# Altium schematic symbol library SX1308_GTW_e381v02c.SchLib: 46 symbols
Pins are listed as number, name and electrical type; pins without a type are passive.

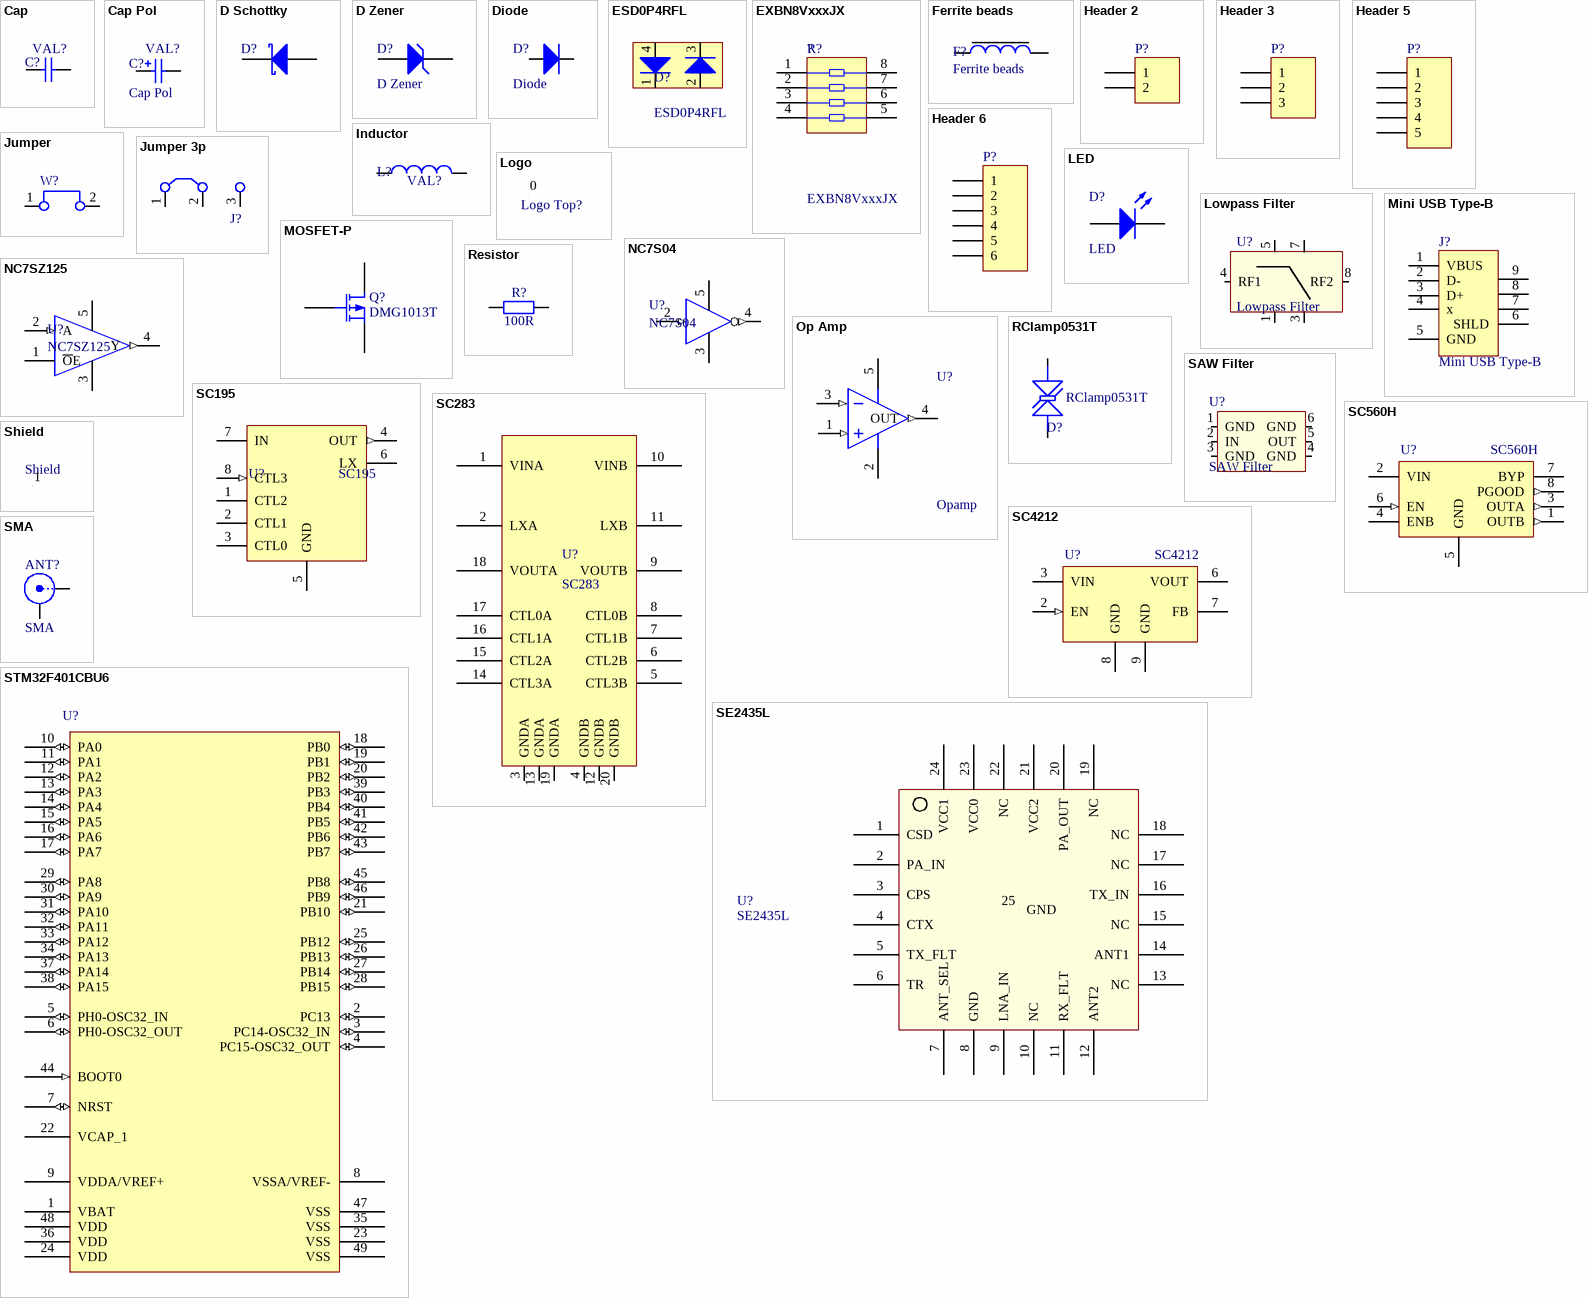
[diagram p0: symbols Cap to STM32F401CBU6]

## Cap
designator C?  value VAL?  (hidden comment: Cap)
Capacitor SMD; Published: 8-Jun-2000; LatestRevisionDate: 05-oct-2007  -  Semtech; LatestRevisionNote: Re-released for DXP Platform.; Publisher: Altium Limited
simulation model CAP (Semiconductor Capacitor)
signal-integrity model Cap Semi
footprint rlc_402_smd (Chip SMD component 402; Body 1.0 x 0.5 mm (LxW typ))
footprint rlc_603_smd (Chip SMD component 603; Body 1.6 x 0.8mm (LxW typ))
footprint rlc_805_smd (Chip SMD component 805; Body 2.0 x 1.25 mm (LxW typ))
footprint rlc_1206_smd (Chip SMD component 1206; Body 3.2 x 1.6 mm (LxW typ))
footprint rlc_201_smd (Chip SMD component 201; Body 0.6 x 0.3 mm (LxW typ))
footprint CD3224 (Chip Diode; Body 3.2 x 2.4mm (LxW typ))
pins: 1, 2

## Cap Pol
designator C?  value VAL?
Polarized Capacitor (Surface Mount); Published: 8-Jun-2000; LatestRevisionDate: 05-oct-2007  -  Semtech; LatestRevisionNote: Re-released for DXP Platform.; Publisher: Altium Limited
simulation model CAP (Capacitor)
signal-integrity model Cap Pol
footprint rlc_1210_smd (Chip SMD component 1210; Body 3.2 x 2.5 mm (LxW typ))
footprint rlc_1812_smd (Chip SMD component 1812; Body 4.5 x 3.2 mm (LxW typ))
footprint rlc_2225_smd (Chip SMD component 2225; Body 5.6 x 6.4 mm (LxW typ))
footprint CD3216-1206 (Chip Diode; Body 3.2 x 1.6 mm (LxW typ))
footprint CD2012-0805 (Chip Diode; Body 2.0 x 1.3 mm (LxW typ))
footprint rlc_1206_smd capa pol (Chip SMD component 1206; Body 3.2 x 1.6 mm (LxW typ))
pins: 1, 2
1 alternate drawing of the same symbol

## D Schottky
designator D?
Schottky Diode; Published: 8-Jun-2000; LatestRevisionDate: 17-Jul-2002; LatestRevisionNote: Re-released for DXP Platform.; PackageReference: SMB; Publisher: Altium Limited; Code_JEDEC: DO-214-AA
footprint SOD523 (SOD523; Chip Diode; Body 1.2 x 0.8 mm (LxW typ))
pins: 1 K, 2 A

## D Zener
designator D?
Zener Diode; Published: 8-Jun-2000; LatestRevisionDate: 05-oct-2007  -  Semtech; LatestRevisionNote: Re-released for DXP Platform.; Publisher: Altium Limited
footprint CD1608-0603 (Chip Diode; Body 1.6 x 0.8 mm (LxW typ))
footprint CD2012-0805 (Chip Diode; Body 2.0 x 1.3 mm (LxW typ))
pins: 1 A, 2 K

## Diode
designator D?
Protection Diode; Published: 8-Jun-2000; LatestRevisionDate: 17-Jul-2002; LatestRevisionNote: Re-released for DXP Platform.; PackageDocument: Sep-1996; PackageReference: SMC; Publisher: Altium Limited; Code_JEDEC: 05-oct-2007  -  Semtech
footprint CD1005-0402 (Chip Diode; Body 1.0 x 0.5 mm (LxW typ))
footprint CD1608-0603 (Chip Diode; Body 1.6 x 0.8 mm (LxW typ))
footprint CD2012-0805 (Chip Diode; Body 2.0 x 1.3 mm (LxW typ))
footprint CD3216-1206 (Chip Diode; Body 3.2 x 1.6 mm (LxW typ))
footprint PowerDI 123 (Chip Diode; PowerDI 123)
footprint DO214-AA (Chip Diode; Body 4.3 x3.6mm (LxW typ))
footprint SOD123 (SOD123; Chip Diode; Body  2.7 x 1.6 mm (LxW typ))
pins: 1 A, 2 K

## ESD0P4RFL
designator D?
ESD0P4RFL - RF ESD Protectction diodes
footprint TSLP-4-7 (TSLP-4-7 1.2x0.8.mm)
pins: 1 K, 2 A, 3 K, 4 A

## EXBN8VxxxJX
designator R?
Mini-Flat Package, Isolated Resistor Network, 0.031 W/resistor; Value: ?
footprint EXB28V (Chip Resistor Array, (0402x4); SM; 8 Leads; Body 2.10 x 1.10 mm (LxW max))
pins: 1, 2, 3, 4, 5, 6, 7, 8

## Ferrite beads
designator F?
Value: VAL?
footprint rlc_1206_smd (Chip SMD component 1206; Body 3.2 x 1.6 mm (LxW typ))
footprint rlc_805_smd (Chip SMD component 805; Body 2.0 x 1.25 mm (LxW typ))
footprint rlc_603_smd (Chip SMD component 603; Body 1.6 x 0.8mm (LxW typ))
footprint rlc_402_smd (Chip SMD component 402; Body 1.0 x 0.5 mm (LxW typ))
pins: 1, 2

## Header 2
designator P?
Header, 2-Pin; LatestRevisionDate: 17-Jul-2002; LatestRevisionNote: Re-released for DXP Platform.; Publisher: Altium Limited
footprint HDR1X2 (Connector; Header; 2 Position)
signal-integrity model Connector
footprint HDR1X2_SMD (Connector; Header; 2 Position; SMD)
pins: 1, 2

## Header 3
designator P?
Header, 3-Pin; LatestRevisionDate: 17-Jul-2002; LatestRevisionNote: Re-released for DXP Platform.; Publisher: Altium Limited
footprint HDR1X3 (Connector; Header; 3 Position)
signal-integrity model Connector
footprint HDR1X3_SMD (Connector; Header; 3 Position; SMD)
pins: 1, 2, 3

## Header 5
designator P?
Header, 5-Pin; LatestRevisionDate: 17-Jul-2002; LatestRevisionNote: Re-released for DXP Platform.; Publisher: Altium Limited
footprint HDR1X5 (Connector; Header; 5 Position)
signal-integrity model Connector
footprint HDR1X5_SMD (Connector; Header; 5 Position; SMD)
pins: 1, 2, 3, 4, 5

## Header 6
designator P?
Header, 6-Pin; LatestRevisionDate: 17-Jul-2002; LatestRevisionNote: Re-released for DXP Platform.; Publisher: Altium Limited
footprint HDR1X6 (Connector; Header; 6 Position)
signal-integrity model Connector
footprint HDR1X6_SMD (Connector; Header; 6 Position; SMD)
pins: 1, 2, 3, 4, 5, 6

## Inductor
designator L?  value VAL?  (hidden comment: Inductor)
Code_IEC: 1005; Published: 8-Jun-2000; LatestRevisionDate: 05-oct-2007  -  Semtech; LatestRevisionNote: Re-released for DXP Platform.; Publisher: Altium Limited; Code_JEITA: 0402
footprint rlc_402_smd (Chip SMD component 402; Body 1.0 x 0.5 mm (LxW typ))
footprint rlc_1812_smd (Chip SMD component 1812; Body 4.5 x 3.2 mm (LxW typ))
footprint WE-PD2 Wurth 5.2 x 5.8mm (Chip Diode; Body  5.2 x 5.8mm (LxW typ))
footprint XFL4020 Series (Chip SMD component ; Body 4.0 x 4.0 mm (LxW typ))
footprint L2813
footprint L4818
pins: 1, 2

## Jumper
designator W?  (value not drawn)
Jumper Wire; LatestRevisionDate: 05-oct-2007  -  Semtech
footprint bridge_254mm (Generic Bridge 2.54mm, 2 Leads 1mm;)
footprint bridge_508mm (Generic Bridge 5.08mm, 2 Leads 1mm;)
pins: 1, 2

## Jumper 3p
designator J?  (value not drawn)
Value: 1K; Published: 8-Jun-2000; LatestRevisionDate: 17-Jul-2002; LatestRevisionNote: Re-released for DXP Platform.; PackageReference: AXIAL-0.3; Publisher: Altium Limited
footprint bridge_254mm_3_position (Generic Bridge 2.54mm, 3 Leads; Hole Size 0.9mm;)
footprint bridge_254mm_3_position_1.1mm (Generic Bridge 2.54mm, 3 Leads; Hole Size 1.1mm;)
footprint bridge_254mm_3_position_no_overlay (Generic Bridge 2.54mm, 3 Leads; Hole Size 0.9mm;)
pins: 1, 2, 3

## LED
designator D?
LatestRevisionDate: 05-oct-2007  -  Semtech
footprint CD1005-0402 (Chip Diode; Body 1.0 x 0.5 mm (LxW typ))
footprint CD1608-0603 (Chip Diode; Body 1.6 x 0.8 mm (LxW typ))
footprint CD2012-0805 (Chip Diode; Body 2.0 x 1.3 mm (LxW typ))
footprint Reverse LED 3216 - 1206-hole round (Reverse Package Chip LED; Body 3.2 x 1.6 mm (LxW typ))
footprint Reverse LED 3216 - 1206 - hole slot (Reverse Package Chip LED; Body 3.2 x 1.6 mm (LxW typ))
footprint LGM676 LED (Chip Diode; Body 2.1 x 1.4 mm (LxW typ))
pins: 1 A, 2 K

## Logo
designator Logo Top?, comment Logo symbol  (value not drawn)
Schematic symbol for Logo
footprint logo_semtech_horiz_size1 (Logo semtech horizontal - size1 - S)
footprint logo_semtech_horiz_size2 (Logo semtech horizontal - size2 - M)
footprint logo_semtech_horiz_size3 (Logo semtech horizontal - size3 - L)
footprint logo_semtech_horiz_size4 (Logo semtech horizontal - size4 - XL)
footprint Logo DC Supply (Logo for DC Supply)
pins: 0 "Logo"

## Lowpass Filter
designator U?
RF Filter - Lowpass; LatestRevisionDate: 05-oct-2007  -  Semtech
footprint LP Filter Johanson (Low Pass Filter ; Body 2.00 x 1.25 mm (LxW max))
pins: 1 GND, 3 GND, 4 RF1, 5 GND, 7 GND, 8 RF2

## Mini USB Type-B
designator J?
USB 2.0, Right Angle, SMT, Type B, Receptacle, 5 Position; ContactMaterial: Phosphor Bronze; ContactPlating: Gold (30) over Nickel; DrillSize: Corresponds to nominal value.; DatasheetDocument: 15-Nov-2002; PackageDocument: 15-Nov-2002; HousingMaterial: Thermoplastic; ComponentLink1Description: Manufacturer Link; ComponentLink1URL: http://www.tycoelectronics.com/; ComponentLink2Description: Packaging Specification; ComponentLink2URL: http://ecommas.tycoelectronics.com/commerce/DocumentDelivery/DDEController?Action=showdoc&DocId=Customer+Drawing%7F440478%7FB%7Fpdf%7FEnglish%7FC_440478_B.pdf
footprint H2959CT-ND (Connector; USB2.0, Type A, SM; 5 Position; Right Angle)
footprint H2959CT_cut_edge (Connector; USB2.0, Type A, SM; 5 Position; Right Angle; Cut Edge for pakgae)
pins: 1 VBUS (power), 2 D-, 3 D+, 4 x, 5 GND (power), 6 SHLD, 7 SHLD, 8 SHLD, 9 SHLD
2 alternate drawings of the same symbol

## MOSFET-P
designator Q?, comment DMG1013T
P-Channel MOSFET; Published: 8-Jun-2000; LatestRevisionDate: 17-Jul-2002; LatestRevisionNote: Re-released for DXP Platform.; PackageVersion: 1995/1996; PackageReference: E3; Publisher: Altium Limited; PackageDescription: TO, Flat Index; 3 In-Line, Axial Leads; Body Dia. 4.6mm; Lead Dia. 0.5 mm (max)
footprint E3 (TO, Flat Index; 3 In-Line, Axial Leads; Body Dia. 4.6mm; Lead Dia. 0.5 mm (max))
simulation model PMOS (MOSFET-P)
pins: 1 D, 2 G, 3 S

## NC7S04
designator U?
NC7S04 - TinyLogic HS Single Inverter - Fairchild Semi
footprint SOT23-5 (SOT23, 5-Leads, Body 2.9x1.6mm, Pitch 0.95mm, Lead Span 2.8mm, IPC Medium Density)
pins: 2 A (in), 3 GND (power), 4 Y (out), 5 VCC (power)

## NC7SZ125
designator U?
NC7SZ125 - TinyLogic HS Single Buffer - Fairchild Semi
footprint SOT23-5 (SOT23, 5-Leads, Body 2.9x1.6mm, Pitch 0.95mm, Lead Span 2.8mm, IPC Medium Density)
footprint SC70-5 (SC70 5-Leads, Body 2.0x1.25mm, Pitch 0.65mm)
pins: 1 ~{O}E (power), 2 A (in), 3 GND (power), 4 Y (out), 5 VCC

## Op Amp
designator U?, comment Opamp
Operational Amplifier - MAX4464
footprint SOT23-5 (SOT23, 5-Leads, Body 2.9x1.6mm, Pitch 0.95mm, Lead Span 2.8mm, IPC Medium Density)
pins: 1 IN+ (in), 2 VSS (power), 3 IN- (in), 4 OUT (out), 5 VDD (power)

## RClamp0531T
designator D?
Ultra Low Capacitance 1-line ESD Protection; LatestRevisionDate: 23-Aug-2016; Type: RClamp0531T
footprint SLP1006P2T (Chip TVS Diode; Body 1.0 x 0.6 mm (LxW typ))
pins: 1 A, 2 K

## Resistor
designator R?  value 100R  (hidden comment: Resistor)
Resistor SMD - IEC symbol version; LatestRevisionDate: 27-Jul-20  -  Semtech
footprint rlc_201_smd (Chip SMD component 201; Body 0.6 x 0.3 mm (LxW typ))
footprint rlc_402_smd (Chip SMD component 402; Body 1.0 x 0.5 mm (LxW typ))
footprint rlc_603_smd (Chip SMD component 603; Body 1.6 x 0.8mm (LxW typ))
footprint rlc_805_smd (Chip SMD component 805; Body 2.0 x 1.25 mm (LxW typ))
footprint rlc_1206_smd (Chip SMD component 1206; Body 3.2 x 1.6 mm (LxW typ))
pins: 1, 2

## SAW Filter
designator U?
SAW Filter - Bandpass - TEMEX type; LatestRevisionDate: 05-oct-2007  -  Semtech
footprint sc44_3.8x3.8mm (sc44 footprint, 3.8x3.8mm)
footprint DCC6C_3.0x3.0mm (DCC6C footprint, 3.0x3.0mm)
pins: 1 GND, 2 IN, 3 GND, 4 GND, 5 OUT, 6 GND

## SC195
designator U?
SC195 - 3.5MHz, 500mA Synchronous  Step Down DC-DC Regulator; Value: ?
footprint MLPQ-UT8
pins: 1 CTL2, 2 CTL1, 3 CTL0, 4 OUT (out), 5 GND (power), 6 LX, 7 IN, 8 CTL3 (in)

## SC283
designator U?
SC283 - Dual Channel 2.5MHz, 1.8A  Synchronous Step-Down Regulator
footprint MLPQ-W18 (MLPQ-W18 ; 2mm x 3mm)
pins: 1 VINA, 2 LXA, 3 GNDA, 4 GNDB, 5 CTL3B, 6 CTL2B, 7 CTL1B, 8 CTL0B, 9 VOUTB, 10 VINB, 11 LXB, 12 GNDB, 13 GNDA, 14 CTL3A, 15 CTL2A, 16 CTL1A, 17 CTL0A, 18 VOUTA, 19 GNDA, 20 GNDB

## SC560H
designator U?
SC560H - Dual Output Low Noise LDO  Linear Regulator
footprint MLPQ-UT8
pins: 1 OUTB (out), 2 VIN, 3 OUTA (out), 4 ENB, 5 GND (power), 6 EN (in), 7 BYP, 8 PGOOD (out)

## SC4212
designator U?
SC4212 - Very Low Input /Very Low Dropout  1Amp Regulator With Enable; Value: ?
footprint MLPD-8 3x3mm (MLPD-8; 3.0x3.0mm; 0.65mm pitch)
pins: 2 EN (in), 3 VIN, 6 VOUT, 7 FB, 8 GND (power), 9 GND (power)

## SE2435L
designator U?
SE2435L - Skyworks High Power RF Front End Module
footprint vqfn24_4x4mm RF (24 Leads, Body 4.0x4.0mm, Pitch 0.50mm, VQFN24; for RF design)
pins: 1 CSD, 2 PA_IN, 3 CPS, 4 CTX, 5 TX_FLT, 6 TR, 7 ANT_SEL, 8 GND, 9 LNA_IN, 10 NC, 11 RX_FLT, 12 ANT2, 13 NC, 14 ANT1, 15 NC, 16 TX_IN, 17 NC, 18 NC, 19 NC, 20 PA_OUT, 21 VCC2, 22 NC, 23 VCC0, 24 VCC1, 25 GND

## Shield
designator Shield, comment Logo symbol  (value not drawn)
Shield - EMI Gasket - Standard Surface Mount Shields
footprint SHIELD-1P125X0P75
footprint SHIELD-1P125X0P75 - 800
footprint SHIELD-1P125X0P75 - 900
footprint BMIS-210-F - Shield (BMIS-210-F EMI Gasket - Standard Surface Mount Shields -  Laird Technologies)
pins: 1 "Shield"

## SMA
designator ANT?
SMA Straight Connector; LatestRevisionDate: 05-oct-2007  -  Semtech; LatestRevisionNote: Re-released for DXP Platform.; Publisher: Altium Limited
footprint SMA_EDGE (SMA Edge connector - modified)
footprint SMA_end_launch_1.6mm_6.35mm (SMA end launch for 1.6mm PCB thickness; 6.35mm)
footprint SMA_end_launch_1.6mm_9.52mm (SMA end launch for 1.6mm PCB thickness; 9.52mm)
pins: 1 Signal "RF signal", 2 GND "Ground signal"

## STM32F401CBU6
designator U?
STM32 ARM Cortex M4 32-bit MCU with 256Kbytes Flash/64kB RAM, UFQFPN48 package; ComponentLink1Description: Manufacturer Link; ComponentLink1URL: www.st.com/stm32
footprint UFQFPN48_7x7MM (UFQFPN48 Leads, Body 7.0x7.0mm, Pitch 0.50mm)
pins: 1 VBAT (power), 2 PC13 (io), 3 PC14-OSC32_IN (io), 4 PC15-OSC32_OUT (io), 5 PH0-OSC32_IN (io), 6 PH0-OSC32_OUT (io), 7 NRST (io), 8 VSSA/VREF- (power), 9 VDDA/VREF+ (power), 10 PA0 (io), 11 PA1 (io), 12 PA2 (io), 13 PA3 (io), 14 PA4 (io), 15 PA5 (io), 16 PA6 (io), 17 PA7 (io), 18 PB0 (io), 19 PB1 (io), 20 PB2 (io), 21 PB10 (io), 22 VCAP_1 (power), 23 VSS (power), 24 VDD (power), 25 PB12 (io), 26 PB13 (io), 27 PB14 (io), 28 PB15 (io), 29 PA8 (io), 30 PA9 (io), 31 PA10 (io), 32 PA11 (io), 33 PA12 (io), 34 PA13 (io), 35 VSS (power), 36 VDD (power), 37 PA14 (io), 38 PA15 (io), 39 PB3 (io), 40 PB4 (io), 41 PB5 (io), 42 PB6 (io), 43 PB7 (io), 44 BOOT0 (in), 45 PB8 (io), 46 PB9 (io), 47 VSS (power), 48 VDD (power), 49 VSS (power) "Exposed Pad GND"

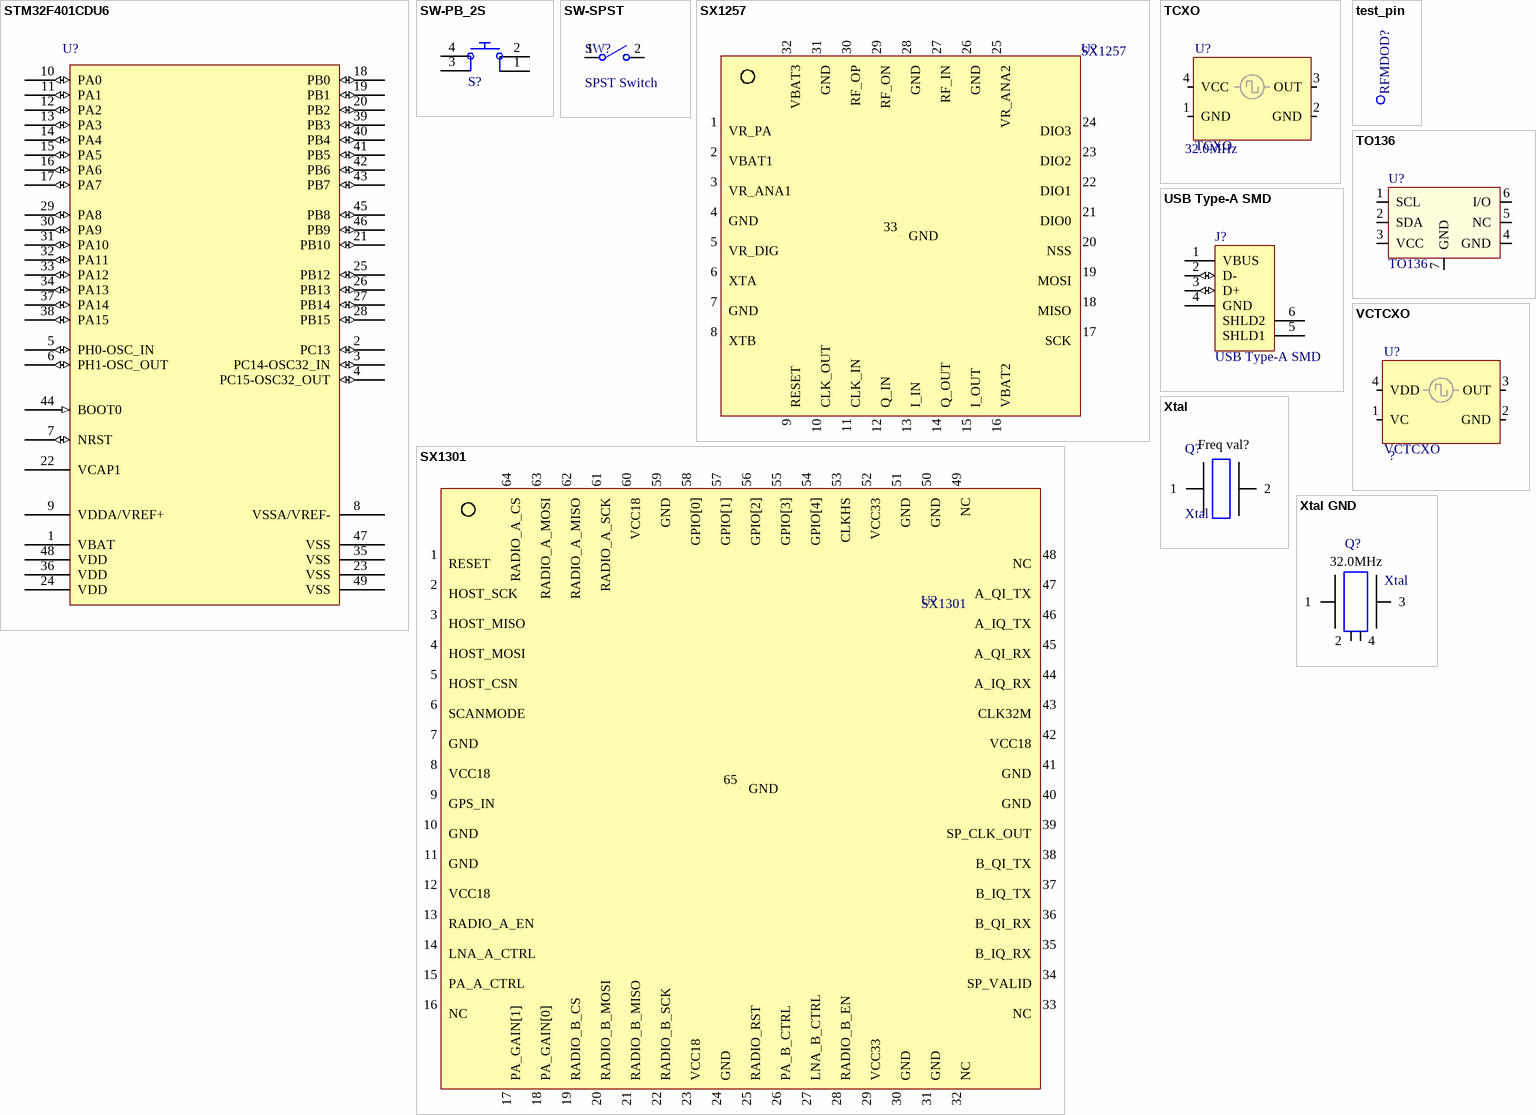
[diagram p1: symbols STM32F401CDU6 to Xtal GND]

## STM32F401CDU6
designator U?
STM32 ARM Cortex M4 32-bit MCU with 256Kbytes Flash/96kB RAM, UFQFPN48 package; ComponentLink1Description: Manufacturer Link; ComponentLink1URL: www.st.com/stm32
footprint UFQFPN48_7x7MM (UFQFPN48 Leads, Body 7.0x7.0mm, Pitch 0.50mm)
pins: 1 VBAT (power), 2 PC13 (io), 3 PC14-OSC32_IN (io), 4 PC15-OSC32_OUT (io), 5 PH0-OSC_IN (io), 6 PH1-OSC_OUT (io), 7 NRST (io), 8 VSSA/VREF- (power), 9 VDDA/VREF+ (power), 10 PA0 (io), 11 PA1 (io), 12 PA2 (io), 13 PA3 (io), 14 PA4 (io), 15 PA5 (io), 16 PA6 (io), 17 PA7 (io), 18 PB0 (io), 19 PB1 (io), 20 PB2 (io), 21 PB10 (io), 22 VCAP1 (power), 23 VSS (power), 24 VDD (power), 25 PB12 (io), 26 PB13 (io), 27 PB14 (io), 28 PB15 (io), 29 PA8 (io), 30 PA9 (io), 31 PA10 (io), 32 PA11 (io), 33 PA12 (io), 34 PA13 (io), 35 VSS (power), 36 VDD (power), 37 PA14 (io), 38 PA15 (io), 39 PB3 (io), 40 PB4 (io), 41 PB5 (io), 42 PB6 (io), 43 PB7 (io), 44 BOOT0 (in), 45 PB8 (io), 46 PB9 (io), 47 VSS (power), 48 VDD (power), 49 VSS (power) "Exposed Pad GND"

## SW-PB_2S
designator S?, comment SW_PB_2S  (value not drawn)
Subminiature Toggle Switch, Right Angle Mounting, Vertical Actuation; Published: 24-Mar-1999; LatestRevisionDate: 05-oct-2007  -  Semtech; LatestRevisionNote: Schematic revised, PCB Footprint replaced.; DatasheetDocument: 05-Dec-2000; Publisher: Altium Limited; ComponentLink1Description: Manufacturer Link; ComponentLink1URL: http://www.apem.com
footprint Switch_FSM2JSMA_Tyco (8-Pin Small Outline Integrated Circuit 1.27 mm Pitch, IPC Medium Density)
footprint Switch_7914_Bourns (Switch Bourns 7914 SMD)
pins: 1, 2, 3, 4

## SW-SPST
designator SW?, comment SPST Switch
SPST, N.O. - Tactile Switch; Value: KXT121LHS; Published: 22-Nov-2016
footprint KXT_series_switch_3.5x2.0mm (Single pole switch; Body 3.5x 2.0 mm (LxW typ))
pins: 1 COMMON, 2 NO

## SX1257
designator U?
SX1257 RF Front-End Transceiver - I/Q New Pinout; LatestRevisionDate: 06-Dec-2013  -  Semtech
footprint vqfn32_5x5mm (32 Leads, Body 5.0x5.0mm, Pitch 0.50mm, VQFN32)
pins: 1 VR_PA, 2 VBAT1, 3 VR_ANA1, 4 GND, 5 VR_DIG, 6 XTA, 7 GND, 8 XTB, 9 RESET, 10 CLK_OUT, 11 CLK_IN, 12 Q_IN, 13 I_IN, 14 Q_OUT, 15 I_OUT, 16 VBAT2, 17 SCK, 18 MISO, 19 MOSI, 20 NSS, 21 DIO0, 22 DIO1, 23 DIO2, 24 DIO3, 25 VR_ANA2, 26 GND, 27 RF_IN, 28 GND, 29 RF_ON, 30 RF_OP, 31 GND, 32 VBAT3, 33 GND

## SX1301
designator U?
SX1301 - Base Band Processor for Data Concentrator for Long Range Communication Network; Apps Pinout; LatestRevisionDate: 06-Dec-2013
footprint vqfn64_9x9mm (VQFN64 Leads, Body 9.0x9.0mm, Pitch 0.50mm, VQFN64)
pins: 1 RESET, 2 HOST_SCK, 3 HOST_MISO, 4 HOST_MOSI, 5 HOST_CSN, 6 SCANMODE, 7 GND, 8 VCC18, 9 GPS_IN, 10 GND, 11 GND, 12 VCC18, 13 RADIO_A_EN, 14 LNA_A_CTRL, 15 PA_A_CTRL, 16 NC, 17 PA_GAIN[1], 18 PA_GAIN[0], 19 RADIO_B_CS, 20 RADIO_B_MOSI, 21 RADIO_B_MISO, 22 RADIO_B_SCK, 23 VCC18, 24 GND, 25 RADIO_RST, 26 PA_B_CTRL, 27 LNA_B_CTRL, 28 RADIO_B_EN, 29 VCC33, 30 GND, 31 GND, 32 NC, 33 NC, 34 SP_VALID, 35 B_IQ_RX, 36 B_QI_RX, 37 B_IQ_TX, 38 B_QI_TX, 39 SP_CLK_OUT, 40 GND, 41 GND, 42 VCC18, 43 CLK32M, 44 A_IQ_RX, 45 A_QI_RX, 46 A_IQ_TX, 47 A_QI_TX, 48 NC, 49 NC, 50 GND, 51 GND, 52 VCC33, 53 CLKHS, 54 GPIO[4], 55 GPIO[3], 56 GPIO[2], 57 GPIO[1], 58 GPIO[0], 59 GND, 60 VCC18, 61 RADIO_A_SCK, 62 RADIO_A_MISO, 63 RADIO_A_MOSI, 64 RADIO_A_CS, 65 GND

## TCXO
designator U?  value 32.0MHz
footprint IT3200C TCXO (SMD 3.2x2.5mm for IT3200C TCXO)
footprint TCXO 3.2x2.5mm (SMD 3.2x2.5mm for TCXO or VCTCXO)
footprint TCXO 3.2x2.5mm_2.0x1.6mm (SMD 3.2x2.5mm & 2.0x1.6mm compatible for TCXO or VCTCXO)
footprint TCXO 2.0x1.6mm (SMD 2.0x1.6mm for TCXO or VCTCXO)
pins: 1 GND, 2 GND, 3 OUT, 4 VCC

## test_pin
designator RFMDOD?, comment Test Pin  (value not drawn)
LatestRevisionDate: 05-oct-2007  -  Semtech
footprint pin_1mm (Generic Pin 1.1mm; 1 Lead)
footprint pin_1.1mm (Generic Pin 1.1mm; 1 Lead)
footprint pin_0.9mm (Generic Pin 0.9mm; 1 Lead)
footprint PIN_SMD (Generic Pin SMD; 1 Lead)
pins: 1 pin "Test Pin"

## TO136
designator U?
TO136 - Secure Element designed for IoT and M2M applications.; LatestRevisionDate: 26-Feb-2016 -  Semtech
footprint DFN6_3X3mm (6 Leads, Body 6x3mm, pitch 0.65mm, DFN6)
pins: 1 SCL, 2 SDA, 3 VCC, 4 GND, 5 NC, 6 I/O, 7 GND

## USB Type-A SMD
designator J?
USB 2.0 SMT, Type A, Receptacle, 4 Position
footprint Keystone USB Type 931 (Connector Keystone; USB 2.0, Type A, SM; 4Position; Right Angle)
pins: 1 VBUS (power), 2 D- (io), 3 D+ (io), 4 GND (power), 5 SHLD1 (power), 6 SHLD2 (power)
2 alternate drawings of the same symbol

## VCTCXO
designator U?
Value: ?
footprint TCXO 3.2x2.5mm (SMD 3.2x2.5mm for TCXO or VCTCXO)
footprint TCXO 7.0x5.0mm (VTCXO SMD 7.0x5.0mm)
pins: 1 VC, 2 GND, 3 OUT, 4 VDD

## Xtal
designator Q?  value Freq val?
Crystal oscillator; LatestRevisionDate: 05-oct-2007  -  Semtech
footprint 3SMXA (Quartz Crystal, SM; Body 6.2 x 3.7 mm (LxW max))
footprint 12SMXA (Quartz Crystal, SM; Body 7.5 x 5.1 mm (LxW max))
footprint BCY-W2/D1.5 (Crystal, Thru-Hole; 2 Leads; Body 1.5 x 5.1 mm (Dia.xH))
footprint BCY-W2/D2.1 (Crystal, Thru-Hole; 2 Leads; Body 2.1 x 6.2 mm (Dia.xH))
footprint DSO-C4/Y2 (Quartz Crystal, SM; 4 Leads; Body 13 x 4.7 x 4.2 mm (LxWxH))
footprint HC49/4H_SMX (Quartz Crystal, SM; Body 13.4 (inc. leads) x 4.9 mm (LxW max))
footprint DSO-C4/D13 (Quartz Crystal, SM; 4 Leads; Body 13 x 5 x 5 mm (LxWxH))
footprint Crystal_3.2x1.5 (Quartz Crystal, SM; Body 3.2x1.5 mm (LxW max))
footprint FC-135 3.2x1.5mm (Crystal unit; 2 leads; 3.2x1.5mm)
footprint CM315D (CM315D; 3.2x1.5mm package)
pins: 1, 2

## Xtal GND
designator Q?, comment Xtal  value 32.0MHz
Crystal with GND pins; LatestRevisionDate: 05-oct-2007  -  Semtech
footprint nd2520da (Crystal SMD 2.5x2.0mm)
footprint nd2016da (Crystal SMD 2.0x1.6mm)
footprint nd3225da (Crystal SMD 3.2x2.5mm)
footprint nd5032da (Crystal SMD 5.0x3.2mm)
footprint nd6035da (Crystal SMD 6.0x3.5mm)
footprint nd7050da - enlarge (Crystal SMD 7.0x5.0mm - Enlarge Pads to be compatible with 3.2x2.5mm footprint)
footprint nd3225da - nd2520da (Crystal SMD 3.2x2.5mm compatible with 2.5x2.0mm)
pins: 1, 2, 3, 4